# Altium footprint library Shunt_Res_Ohmite_LVK20R100CER.PcbLib: 1 footprints
Each footprint in its own frame and in the unit in brackets; x right, y up, seen from the top. Pads: shape width x height; smd on the part's side, far side on the other; paste and mask are expansions set on the pad; w line width, h text height; cw(c..) or ccw(c..) is an arc to the next point about the centre after c.
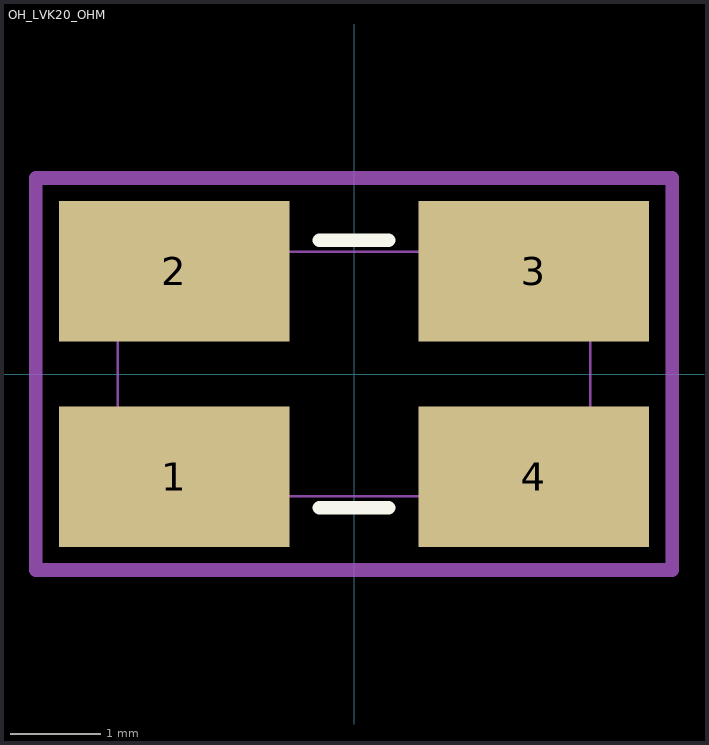
[diagram p0: the footprint, top view; thin cyan lines are the x and y axes]

## OH_LVK20_OHM [mil]
pads (4):
  rect 100x61 smd paste+0 mask+0: 1(-78,-44.5) 2(-78,44.5) 3(78,44.5) 4(78,-44.5)
Top Overlay:
  lines w6: -14.9,-58 14.9,-58 ; -14.9,58 14.9,58
Mechanical 13:
  lines w1: -102.5,-53 102.5,-53 102.5,53 -102.5,53 -102.5,-53
Mechanical 15:
  lines w6: -138,-85 -138,85 138,85 138,-85 -138,-85
3D body "LVK20R010DER.stp": height 22.82, standoff 1.15, extent -98.5,-49 98.5,49